# Altium schematic symbol library ebf_mp157 core board s1_20210223_原理图封装库_AD格式.SCHLIB: 35 symbols
Pins are listed as number, name and electrical type; pins without a type are passive.

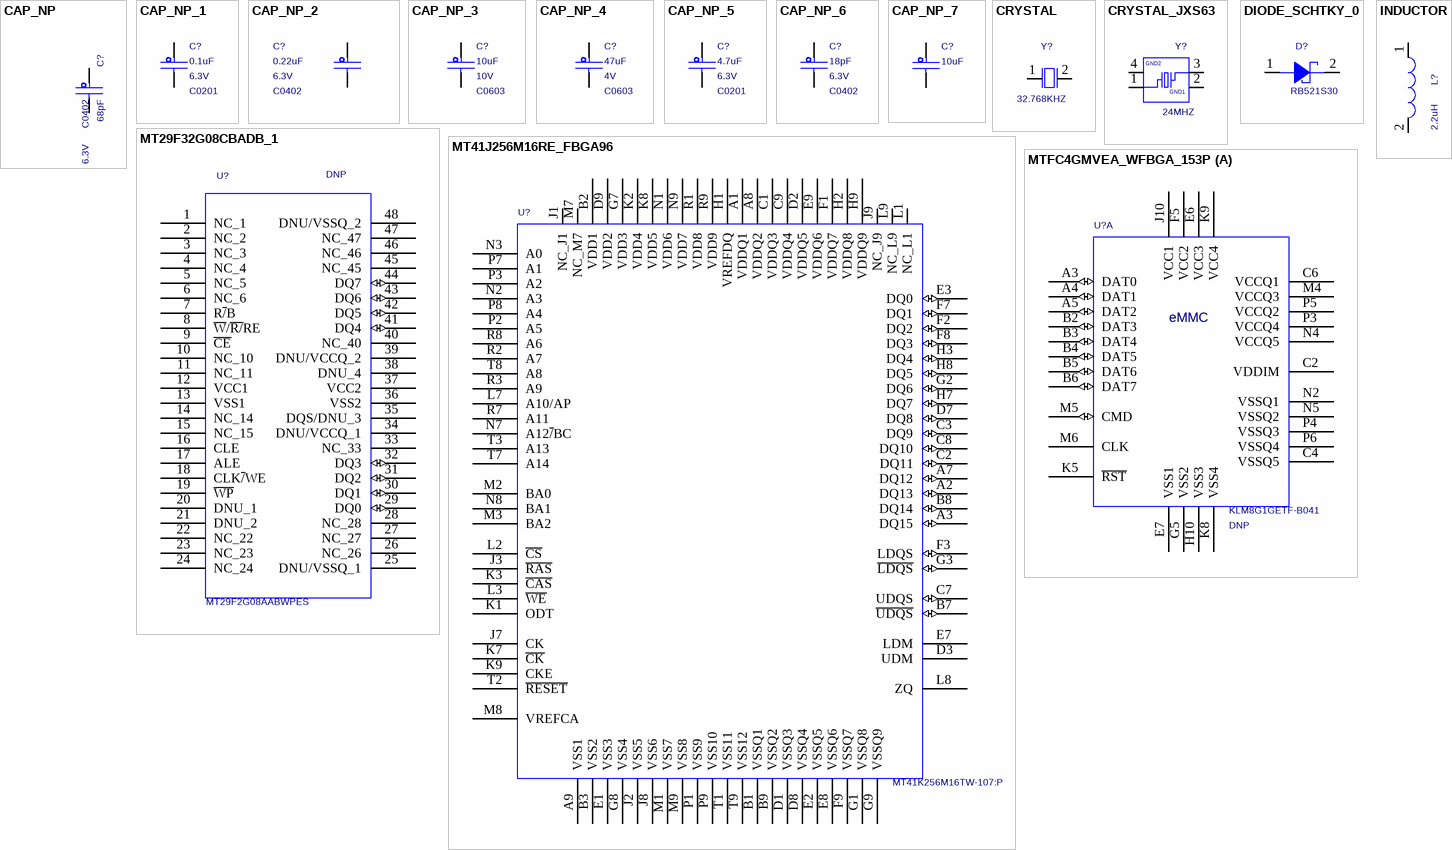
[diagram p0: symbols CAP_NP to MTFC4GMVEA_WFBGA_153P]

## CAP_NP
designator C?  value 68pF  VOLTAGE: 6.3V  PCB DECAL: C0402  (hidden comment: CAP_NP)
CAP CER 0.22UF 6.3V 20% X5R 0402; AGILE_PN: 150-76271; MFG_NAME01: KEMET; MFG_PN01: C0402C224M9PAC; CAD_APPROVED: Yes; FPLIST: CC0402_25,CC0402_HD,0402_CC; Source_Path: Q:\ORCADCIS\SYMBOLS\FCL_CAPACITOR.OLB; CLASS: DISCRETE; Tolerance: 20%; ROHS: Yes; HEIGHT: 0.55MM
footprint C0402
pins: 1, 2

## CAP_NP_1
designator C?, comment value 0.1uF  VOLTAGE: 6.3V  PCB DECAL: C0201  (hidden comment: CAP_NP)
CAP CER 0.22UF 6.3V 20% X5R 0402; FPLIST: CC0402_25,CC0402_HD,0402_CC; CAD_APPROVED: Yes; MFG_PN01: C0402C224M9PAC; MFG_NAME01: KEMET; AGILE_PN: 150-76271; Source_Path: Q:\ORCADCIS\SYMBOLS\FCL_CAPACITOR.OLB; CLASS: DISCRETE; HEIGHT: 0.55MM; ROHS: Yes; Tolerance: 20%
footprint C0201
pins: 1, 2

## CAP_NP_2
designator C?, comment value 0.22uF  VOLTAGE: 6.3V  PCB DECAL: C0402  (hidden comment: CAP_NP)
CAP CER 0.22UF 6.3V 20% X5R 0402; FPLIST: CC0402_25,CC0402_HD,0402_CC; CAD_APPROVED: Yes; MFG_PN01: C0402C224M9PAC; MFG_NAME01: KEMET; AGILE_PN: 150-76271; Source_Path: Q:\ORCADCIS\SYMBOLS\FCL_CAPACITOR.OLB; CLASS: DISCRETE; HEIGHT: 0.55MM; ROHS: Yes; Tolerance: 20%
footprint C0402
pins: 1, 2

## CAP_NP_3
designator C?, comment value 10uF  voltage_rating: 10V  PCB DECAL: C0603  (hidden comment: CAP_NP)
CAP CER 22UF 6.3V 20% X5R 0603; AGILE_PN: 150-78467; MFG_NAME01: Samsung; MFG_PN01: CL10A226MQ8NRNE; CAD_APPROVED: Yes; FPLIST: CC0603_OV,CC0603,0603_CC; Source_Path: Q:\ORCADCIS\SYMBOLS\FCL_CAPACITOR.OLB; CLASS: DISCRETE; Tolerance: 20%; ROHS: Yes; HEIGHT: 1MM; VOLTAGE: 6.3V
footprint C0603
pins: 1, 2

## CAP_NP_4
designator C?, comment value 47uF  voltage_rating: 4V  PCB DECAL: C0603  (hidden comment: CAP_NP)
CAP CER 22UF 6.3V 20% X5R 0603; AGILE_PN: 150-78467; MFG_NAME01: Samsung; MFG_PN01: CL10A226MQ8NRNE; CAD_APPROVED: Yes; FPLIST: CC0603_OV,CC0603,0603_CC; Source_Path: Q:\ORCADCIS\SYMBOLS\FCL_CAPACITOR.OLB; CLASS: DISCRETE; Tolerance: 20%; ROHS: Yes; HEIGHT: 1MM; VOLTAGE: 6.3V
footprint C0603
pins: 1, 2

## CAP_NP_5
designator C?, comment value 4.7uF  VOLTAGE: 6.3V  PCB DECAL: C0201  (hidden comment: CAP_NP)
CAP CER 0.22UF 6.3V 20% X5R 0402; AGILE_PN: 150-76271; MFG_NAME01: KEMET; MFG_PN01: C0402C224M9PAC; CAD_APPROVED: Yes; FPLIST: CC0402_25,CC0402_HD,0402_CC; Source_Path: Q:\ORCADCIS\SYMBOLS\FCL_CAPACITOR.OLB; CLASS: DISCRETE; Tolerance: 20%; ROHS: Yes; HEIGHT: 0.55MM
footprint C0201
pins: 1, 2

## CAP_NP_6
designator C?, comment value 18pF  VOLTAGE: 6.3V  PCB DECAL: C0402  (hidden comment: CAP_NP)
CAP CER 0.22UF 6.3V 20% X5R 0402; AGILE_PN: 150-76271; MFG_NAME01: KEMET; MFG_PN01: C0402C224M9PAC; CAD_APPROVED: Yes; FPLIST: CC0402_25,CC0402_HD,0402_CC; Source_Path: Q:\ORCADCIS\SYMBOLS\FCL_CAPACITOR.OLB; CLASS: DISCRETE; Tolerance: 20%; ROHS: Yes; HEIGHT: 0.55MM
footprint C0402
pins: 1, 2

## CAP_NP_7
designator C?, comment value 10uF  (hidden comment: CAP_NP)
CAP CER 0.22UF 6.3V 20% X5R 0402; FPLIST: CC0402_25,CC0402_HD,0402_CC; CAD_APPROVED: Yes; MFG_PN01: C0402C224M9PAC; MFG_NAME01: KEMET; AGILE_PN: 150-76271; PCB DECAL: C0603; Source_Path: Q:\ORCADCIS\SYMBOLS\FCL_CAPACITOR.OLB; CLASS: DISCRETE; VOLTAGE: 6.3V; HEIGHT: 0.55MM; ROHS: Yes; Tolerance: 20%
footprint C0603
pins: 1, 2

## CRYSTAL
designator Y?  value 32.768KHZ  (hidden comment: CRYSTAL)
XTAL 32.768KHZ 7PF 20PPM -- SMT; CAD_APPROVED: Yes; MFG_PN01: FC-135 32.7680KA-AG3; MFG_NAME01: EPSON ELECTRONICS; AGILE_PN: 230-78102; PCB DECAL: 3215; Source_Path: Q:\ORCADCIS\SYMBOLS\FCL_XTAL_OSC.OLB; CLASS: IC; HEIGHT: 0.9MM; ROHS: Yes
footprint 3215
pins: 1, 2

## CRYSTAL_JXS63
designator Y?  value 24MHZ  (hidden comment: CRYSTAL_JXS63)
XTAL 24MHZ -- 30PPM 3.2X2.5MM SMD; AGILE_PN: 230-77452; MFG_NAME01: TXC CORP; MFG_PN01: 7V24000002; CAD_APPROVED: Yes; PCB DECAL: 3225; Source_Path: Q:\ORCADCIS\SYMBOLS\FCL_XTAL_OSC.OLB; CLASS: IC; ROHS: Yes; HEIGHT: 0.9MM
footprint 3225
pins: 1, 2 GND1 (power), 3, 4 GND2 (power)

## DIODE_SCHTKY_0
designator D?  value RB521S30  (hidden comment: DIODE_SCHTKY_0)
DIODE SCH RECT 200MA 30V AEC-Q101 SOD-523; CAD_APPROVED: Yes; MFG_PN01: RB521S30,115; MFG_NAME01: NEXPERIA; AGILE_PN: 480-79672; PCB DECAL: SOD523; Source_Path: H:\NXP_RT1050\SCH\IMXRT1052_CORE\CORE\IMXRT1052_1207.DSN; CLASS: IC; HEIGHT: 0.65MM; ROHS: Yes
footprint SOD523
pins: 1, 2

## INDUCTOR
designator L?  value 2.2uH  (hidden comment: INDUCTOR)
IND WW PWR 1.5uH@1MHZ 2A 20% 2520; PART_TYPE: POWER; AGILE_PN: 180-78270; MFG_NAME01: Shenzhen Sunlord Electronics Co., Ltd; MFG_PN01: SPH252012H1R5MT; CAD_APPROVED: Yes; PCB DECAL: L2520; Source_Path: Q:\ORCADCIS\SYMBOLS\FCL_INDUCTOR.OLB; CLASS: DISCRETE; Tolerance: 20%; ROHS: Yes; HEIGHT: 1.2MM
footprint L2520
pins: 1, 2

## MT29F32G08CBADB_1
designator U?  value MT29F2G08AABWPES  ASSY_OPT: DNP  (hidden comment: MT29F32G08CBADB_1)
IC MEM NAND FLASH ASYNC 32GB 2.7-3.6V TSOP48; PCB DECAL: TSOP48-050-1220; CAD_APPROVED: Yes; MFG_PN01: MT29F32G08CBADBWP-12IT:D; MFG_NAME01: Micron; AGILE_PN: 334-77617; Source_Path: E:\Z\野火_MP157_核心板_底板_硬件资料\EBF157_B1_002\EBF157_B1_001.DSN; HEIGHT: 1.2 MM; ROHS: Yes; CLASS: IC
footprint TSOP48-050-1220
pins: 1 NC_1, 2 NC_2, 3 NC_3, 4 NC_4, 5 NC_5, 6 NC_6, 7 R~{/}B (oc), 8 ~{W}/~{R/}RE, 9 ~{CE}, 10 NC_10, 11 NC_11, 12 VCC1 (power), 13 VSS1 (power), 14 NC_14, 15 NC_15, 16 CLE, 17 ALE, 18 CLK~{/}WE, 19 ~{WP}, 20 DNU_1, 21 DNU_2, 22 NC_22, 23 NC_23, 24 NC_24, 25 DNU/VSSQ_1, 26 NC_26, 27 NC_27, 28 NC_28, 29 DQ0 (io), 30 DQ1 (io), 31 DQ2 (io), 32 DQ3 (io), 33 NC_33, 34 DNU/VCCQ_1, 35 DQS/DNU_3, 36 VSS2 (power), 37 VCC2 (power), 38 DNU_4, 39 DNU/VCCQ_2, 40 NC_40, 41 DQ4 (io), 42 DQ5 (io), 43 DQ6 (io), 44 DQ7 (io), 45 NC_45, 46 NC_46, 47 NC_47, 48 DNU/VSSQ_2

## MT41J256M16RE_FBGA96
designator U?  value MT41K256M16TW-107:P  (hidden comment: MT41J256M16RE_FBGA96)
IC MEM DDR3 SDRAM 256MX16 1.071NS 1.35V FBGA96; PCB DECAL: BGA96_0P8_8P15X14P15; AGILE_PN: 334-77510; MFG_NAME01: MICRON; CAD_APPROVED: Yes; Source_Path: Q:\ORCADCIS\SYMBOLS\FCL_IC5.OLB; MFG_PN01: MT41K256M16TW-107:P; ROHS: Yes; HEIGHT: 1.2 MM; CLASS: IC
footprint BGA96_0P8_8P15X14P15
pins: A1 VDDQ1 (power), A2 DQ13 (io), A3 DQ15 (io), A7 DQ12 (io), A8 VDDQ2 (power), A9 VSS1 (power), B1 VSSQ1 (power), B2 VDD1 (power), B3 VSS2 (power), B7 ~{UDQS} (io), B8 DQ14 (io), B9 VSSQ2 (power), C1 VDDQ3 (power), C2 DQ11 (io), C3 DQ9 (io), C7 UDQS (io), C8 DQ10 (io), C9 VDDQ4 (power), D1 VSSQ3 (power), D2 VDDQ5 (power), D3 UDM, D7 DQ8 (io), D8 VSSQ4 (power), D9 VDD2 (power), E1 VSS3 (power), E2 VSSQ5 (power), E3 DQ0 (io), E7 LDM, E8 VSSQ6 (power), E9 VDDQ6 (power), F1 VDDQ7 (power), F2 DQ2 (io), F3 LDQS (io), F7 DQ1 (io), F8 DQ3 (io), F9 VSSQ7 (power), G1 VSSQ8 (power), G2 DQ6 (io), G3 ~{LDQS} (io), G7 VDD3 (power), G8 VSS4 (power), G9 VSSQ9 (power), H1 VREFDQ, H2 VDDQ8 (power), H3 DQ4 (io), H7 DQ7 (io), H8 DQ5 (io), H9 VDDQ9 (power), J1 NC_J1, J2 VSS5 (power), J3 ~{RAS}, J7 CK, J8 VSS6 (power), J9 NC_J9, K1 ODT, K2 VDD4 (power), K3 ~{CAS}, K7 ~{CK}, K8 VDD5 (power), K9 CKE, L1 NC_L1, L2 ~{CS}, L3 ~{WE}, L7 A10/AP, L8 ZQ, L9 NC_L9, M1 VSS7 (power), M2 BA0, M3 BA2, M7 NC_M7, M8 VREFCA, M9 VSS8 (power), N1 VDD6 (power), N2 A3, N3 A0, N7 A12~{/}BC, N8 BA1, N9 VDD7 (power), P1 VSS9 (power), P2 A5, P3 A2, P7 A1, P8 A4, P9 VSS10 (power), R1 VDD8 (power), R2 A7, R3 A9, R7 A11, R8 A6, R9 VDD9 (power), T1 VSS11 (power), T2 ~{RESET}, T3 A13, T7 A14, T8 A8, T9 VSS12 (power)

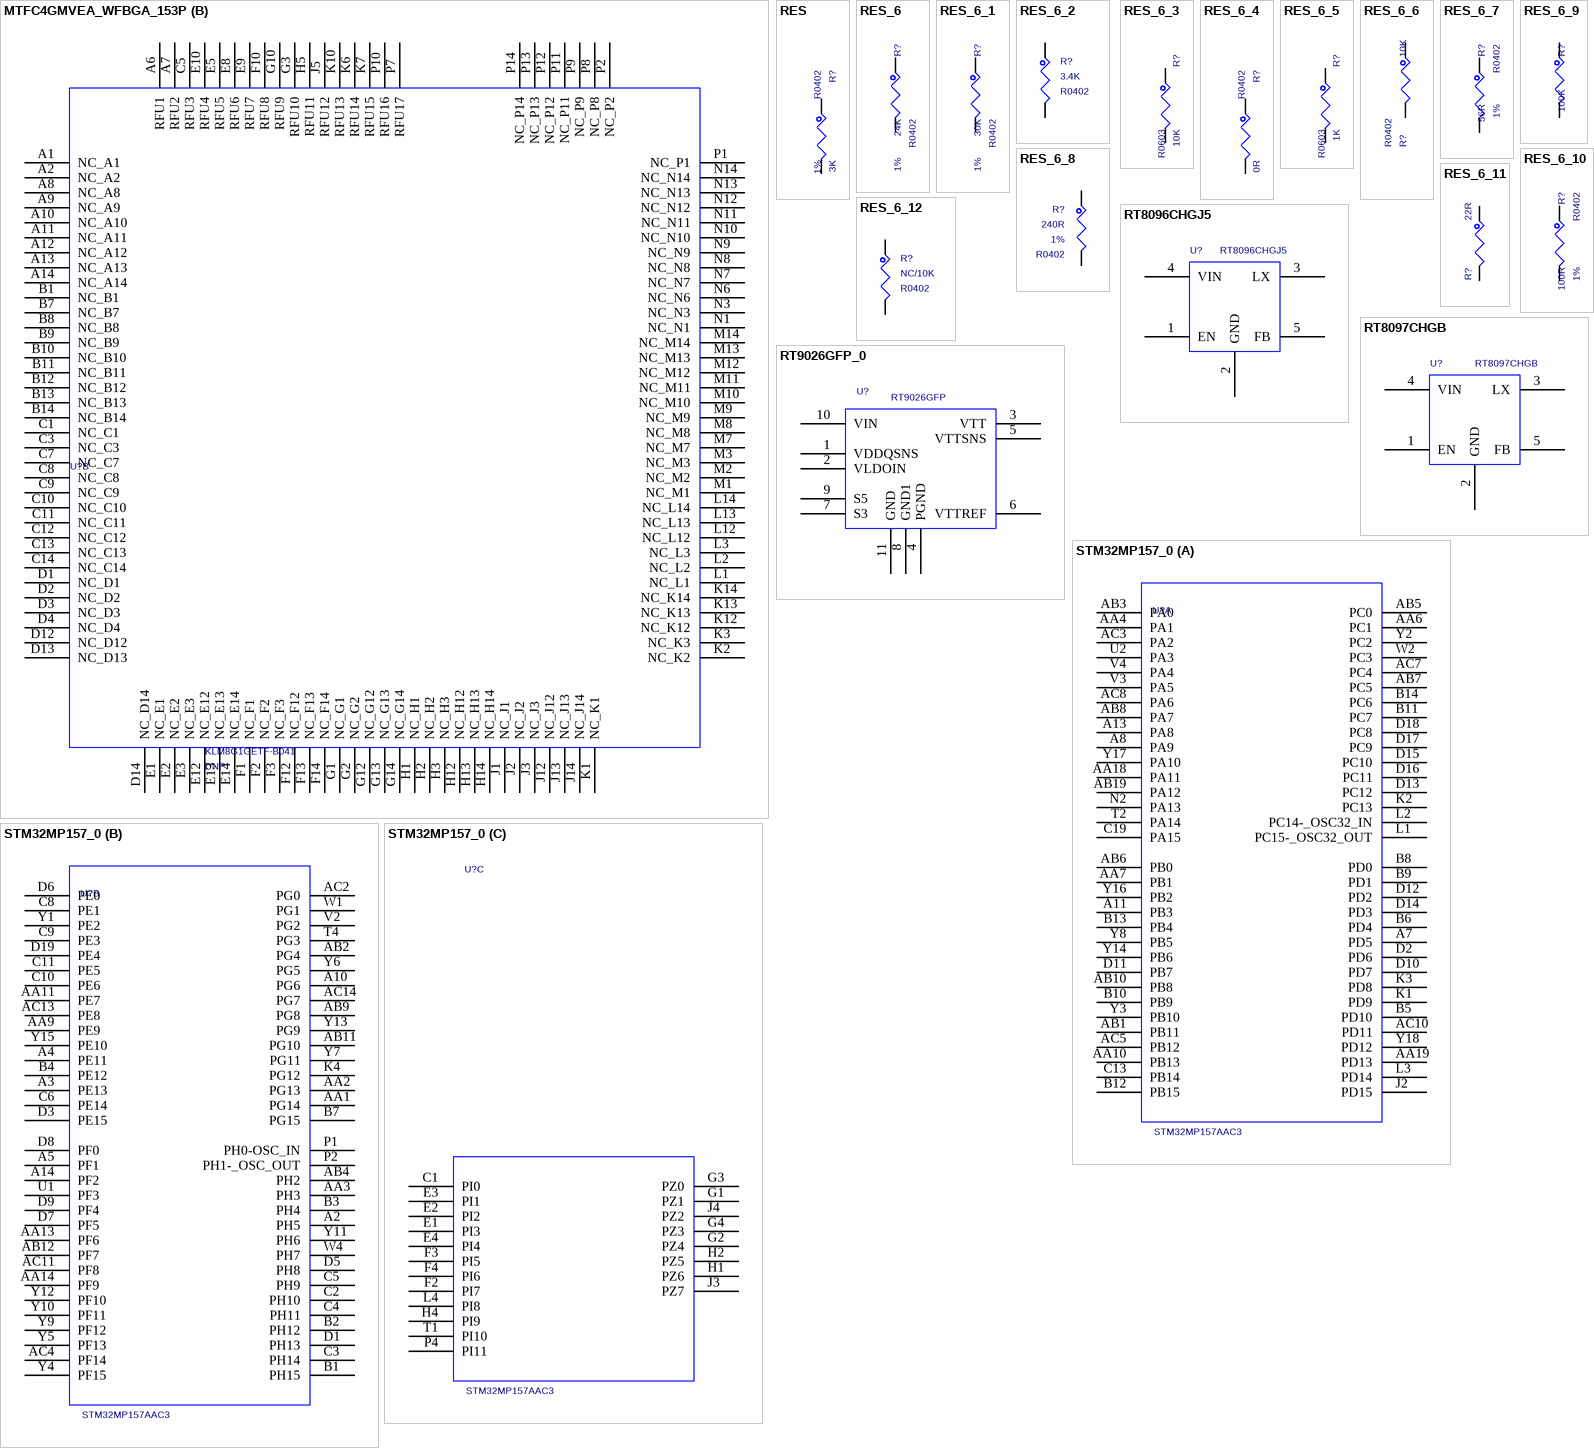
[diagram p1: symbols MTFC4GMVEA_WFBGA_153P to STM32MP157_0]

## MTFC4GMVEA_WFBGA_153P
designator U?  value KLM8G1GETF-B041  ASSY_OPT: DNP  (hidden comment: MTFC4GMVEA_WFBGA_153P)
IC MEM NAND FLASH 8GB MMC 4.51 CTLR 2.7-3.6V FBGA153; CAD_APPROVED: Yes; MFG_PN01: MTFC8GACAAAM-1M WT; MFG_NAME01: MICRON; AGILE_PN: 342-00603; PCB DECAL: FBGA153_0P5_11P5X13; Source_Path: Q:\ORCADCIS\SYMBOLS\FCL_IC5.OLB; HEIGHT: 1.165 MM; ROHS: Yes; CLASS: IC
footprint FBGA153_0P5_11P5X13
part A pins: A3 DAT0 (io), A4 DAT1 (io), A5 DAT2 (io), B2 DAT3 (io), B3 DAT4 (io), B4 DAT5 (io), B5 DAT6 (io), B6 DAT7 (io), C2 VDDIM (power), C4 VSSQ5 (power), C6 VCCQ1 (power), E6 VCC3 (power), E7 VSS1 (power), F5 VCC2 (power), G5 VSS2 (power), H10 VSS3 (power), J10 VCC1 (power), K5 ~{RST}, K8 VSS4 (power), K9 VCC4 (power), M4 VCCQ3 (power), M5 CMD (io), M6 CLK, N2 VSSQ1 (power), N4 VCCQ5 (power), N5 VSSQ2 (power), P3 VCCQ4 (power), P4 VSSQ3 (power), P5 VCCQ2 (power), P6 VSSQ4 (power)
part B pins: A1 NC_A1, A2 NC_A2, A6 RFU1, A7 RFU2, A8 NC_A8, A9 NC_A9, A10 NC_A10, A11 NC_A11, A12 NC_A12, A13 NC_A13, A14 NC_A14, B1 NC_B1, B7 NC_B7, B8 NC_B8, B9 NC_B9, B10 NC_B10, B11 NC_B11, B12 NC_B12, B13 NC_B13, B14 NC_B14, C1 NC_C1, C3 NC_C3, C5 RFU3, C7 NC_C7, C8 NC_C8, C9 NC_C9, C10 NC_C10, C11 NC_C11, C12 NC_C12, C13 NC_C13, C14 NC_C14, D1 NC_D1, D2 NC_D2, D3 NC_D3, D4 NC_D4, D12 NC_D12, D13 NC_D13, D14 NC_D14, E1 NC_E1, E2 NC_E2, E3 NC_E3, E5 RFU5, E8 RFU6, E9 RFU7, E10 RFU4, E12 NC_E12, E13 NC_E13, E14 NC_E14, F1 NC_F1, F2 NC_F2, F3 NC_F3, F10 RFU8, F12 NC_F12, F13 NC_F13, F14 NC_F14, G1 NC_G1, G2 NC_G2, G3 RFU10, G10 RFU9, G12 NC_G12, G13 NC_G13, G14 NC_G14, H1 NC_H1, H2 NC_H2, H3 NC_H3, H5 RFU11, H12 NC_H12, H13 NC_H13, H14 NC_H14, J1 NC_J1, J2 NC_J2, J3 NC_J3, J5 RFU12, J12 NC_J12, J13 NC_J13, J14 NC_J14, K1 NC_K1, K2 NC_K2, K3 NC_K3, K6 RFU14, K7 RFU15, K10 RFU13, K12 NC_K12, K13 NC_K13, K14 NC_K14, L1 NC_L1, L2 NC_L2, L3 NC_L3, L12 NC_L12, L13 NC_L13, L14 NC_L14, M1 NC_M1, M2 NC_M2, M3 NC_M3, M7 NC_M7, M8 NC_M8, M9 NC_M9, M10 NC_M10, M11 NC_M11, M12 NC_M12, M13 NC_M13, M14 NC_M14, N1 NC_N1, N3 NC_N3, N6 NC_N6, N7 NC_N7, N8 NC_N8, N9 NC_N9, N10 NC_N10, N11 NC_N11, N12 NC_N12, N13 NC_N13, N14 NC_N14, P1 NC_P1, P2 NC_P2, P7 RFU17, P8 NC_P8, P9 NC_P9, P10 RFU16, P11 NC_P11, P12 NC_P12, P13 NC_P13, P14 NC_P14
part A text: eMMC

## RES
designator R?  value 3K  PCB DECAL: R0402  Tolerance: 1%  (hidden comment: RES)
RES MF 2.2M  1/16W 1% 0402; FPLIST: RC0402_25,RC0402_HD,0402_CC; CAD_APPROVED: Yes; MFG_PN01: RK73H1ETTP2204F; MFG_NAME01: KOA SPEER; AGILE_PN: 470-31210; Source_Path: Q:\ORCADCIS\SYMBOLS\FCL_RESISTOR.OLB; CLASS: DISCRETE; HEIGHT: 0.40 MM; ROHS: Yes
footprint R0402
pins: 1, 2

## RES_6
designator R?  value 24K  Tolerance: 1%  PCB DECAL: R0402  (hidden comment: RES_6)
RES MF 180K 1/10W 1% AEC-Q200 0402; Temp_Range: -55C to +155C; FPLIST: RC0402_25,RC0402_HD,0402_CC; CAD_APPROVED: Yes; MFG_PN01: RK73H1ETTP1803F; MFG_NAME01: KOA SPEER; AGILE_PN: 470-31088; Source_Path: E:\Z\20200407_MP157\核心板\SCH\EBF_MP157 CORE BOARD_20200407.DSN; CLASS: DISCRETE; HEIGHT: 0.40 MM; ROHS: Yes
footprint R0402
pins: 1, 2

## RES_6_1
designator R?, comment value 30K  Tolerance: 1%  PCB DECAL: R0402  (hidden comment: RES_6)
RES MF 180K 1/10W 1% AEC-Q200 0402; AGILE_PN: 470-31088; MFG_NAME01: KOA SPEER; MFG_PN01: RK73H1ETTP1803F; CAD_APPROVED: Yes; FPLIST: RC0402_25,RC0402_HD,0402_CC; Temp_Range: -55C to +155C; Source_Path: E:\Z\20200407_MP157\核心板\SCH\EBF_MP157 CORE BOARD_20200407.DSN; CLASS: DISCRETE; ROHS: Yes; HEIGHT: 0.40 MM
footprint R0402
pins: 1, 2

## RES_6_2
designator R?, comment value 3.4K  PCB DECAL: R0402  (hidden comment: RES_6)
RES MF 4.7K 1/16W 5% 0402; FPLIST: RC0402_25,RC0402_HD,0402_CC; CAD_APPROVED: Yes; MFG_PN01: RK73B1ETTP472J; MFG_NAME01: KOA SPEER; AGILE_PN: 470-75626; Source_Path: E:\Z\20200407_MP157\核心板\SCH\EBF_MP157 CORE BOARD_20200407.DSN; CLASS: DISCRETE; HEIGHT: 0.41mm; ROHS: Yes; Tolerance: 5%
footprint R0402
pins: 1, 2

## RES_6_3
designator R?, comment value 10K  PCB DECAL: R0603  (hidden comment: RES_6)
RES MF ZERO OHM 1/16W 5% 0402; AGILE_PN: 470-75394; MFG_NAME01: ROHM; MFG_PN01: MCR01MZPJ000; CAD_APPROVED: Yes; FPLIST: RC0402_25,RC0402_HD,RC0402_X2,0402_CC; Source_Path: E:\Z\20200407_MP157\核心板\SCH\EBF_MP157 CORE BOARD_20200407.DSN; CLASS: DISCRETE; HEIGHT: 0.45 MM; Tolerance: 5%; ROHS: Yes
footprint R0603
pins: 1, 2

## RES_6_4
designator R?, comment value 0R  PCB DECAL: R0402  (hidden comment: RES_6)
RES MF ZERO OHM 1/16W 5% 0402; AGILE_PN: 470-75394; MFG_NAME01: ROHM; MFG_PN01: MCR01MZPJ000; CAD_APPROVED: Yes; FPLIST: RC0402_25,RC0402_HD,RC0402_X2,0402_CC; Source_Path: E:\Z\20200407_MP157\核心板\SCH\EBF_MP157 CORE BOARD_20200407.DSN; CLASS: DISCRETE; HEIGHT: 0.45 MM; Tolerance: 5%; ROHS: Yes
footprint R0402
pins: 1, 2

## RES_6_5
designator R?, comment value 1K  PCB DECAL: R0603  (hidden comment: RES_6)
RES MF ZERO OHM 1/16W 5% 0402; FPLIST: RC0402_25,RC0402_HD,RC0402_X2,0402_CC; CAD_APPROVED: Yes; MFG_PN01: MCR01MZPJ000; MFG_NAME01: ROHM; AGILE_PN: 470-75394; Source_Path: E:\Z\20200407_MP157\核心板\SCH\EBF_MP157 CORE BOARD_20200407.DSN; CLASS: DISCRETE; ROHS: Yes; Tolerance: 5%; HEIGHT: 0.45 MM
footprint R0603
pins: 1, 2

## RES_6_6
designator R?, comment value 10K  PCB DECAL: R0402  (hidden comment: RES_6)
RES MF 10K 1/16W 5% 0402; FPLIST: RC0402_25,RC0402_HD,0402_CC; CAD_APPROVED: Yes; MFG_PN01: CRCW040210K0JNED; MFG_NAME01: VISHAY INTERTECHNOLOGY; AGILE_PN: 470-75557; Source_Path: E:\Z\20200407_MP157\核心板\SCH\EBF_MP157 CORE BOARD_20200407.DSN; CLASS: DISCRETE; HEIGHT: 0.4 MM; ROHS: Yes; Tolerance: 5%
footprint R0402
pins: 1, 2

## RES_6_7
designator R?, comment value 56R  PCB DECAL: R0402  Tolerance: 1%  (hidden comment: RES_6)
RES MF 180K 1/10W 1% AEC-Q200 0402; Temp_Range: -55C to +155C; FPLIST: RC0402_25,RC0402_HD,0402_CC; CAD_APPROVED: Yes; MFG_PN01: RK73H1ETTP1803F; MFG_NAME01: KOA SPEER; AGILE_PN: 470-31088; Source_Path: E:\Z\20200407_MP157\核心板\SCH\EBF_MP157 CORE BOARD_20200407.DSN; CLASS: DISCRETE; HEIGHT: 0.40 MM; ROHS: Yes
footprint R0402
pins: 1, 2

## RES_6_8
designator R?, comment value 240R  PCB DECAL: R0402  Tolerance: 1%  (hidden comment: RES_6)
RES MF 180K 1/10W 1% AEC-Q200 0402; AGILE_PN: 470-31088; MFG_NAME01: KOA SPEER; MFG_PN01: RK73H1ETTP1803F; CAD_APPROVED: Yes; FPLIST: RC0402_25,RC0402_HD,0402_CC; Temp_Range: -55C to +155C; Source_Path: E:\Z\20200407_MP157\核心板\SCH\EBF_MP157 CORE BOARD_20200407.DSN; CLASS: DISCRETE; ROHS: Yes; HEIGHT: 0.40 MM
footprint R0402
pins: 1, 2

## RES_6_9
designator R?, comment value 100K  (hidden comment: RES_6)
RES MF 180K 1/10W 1% AEC-Q200 0402; AGILE_PN: 470-31088; MFG_NAME01: KOA SPEER; MFG_PN01: RK73H1ETTP1803F; CAD_APPROVED: Yes; FPLIST: RC0402_25,RC0402_HD,0402_CC; Temp_Range: -55C to +155C; PCB DECAL: R0402; Source_Path: E:\Z\20200407_MP157\核心板\SCH\EBF_MP157 CORE BOARD_20200407.DSN; CLASS: DISCRETE; Tolerance: 1%; ROHS: Yes; HEIGHT: 0.40 MM
footprint R0402
pins: 1, 2

## RES_6_10
designator R?, comment value 100R  Tolerance: 1%  PCB DECAL: R0402  (hidden comment: RES_6)
RES MF 180K 1/10W 1% AEC-Q200 0402; AGILE_PN: 470-31088; MFG_NAME01: KOA SPEER; MFG_PN01: RK73H1ETTP1803F; CAD_APPROVED: Yes; FPLIST: RC0402_25,RC0402_HD,0402_CC; Temp_Range: -55C to +155C; Source_Path: E:\Z\20200407_MP157\核心板\SCH\EBF_MP157 CORE BOARD_20200407.DSN; CLASS: DISCRETE; ROHS: Yes; HEIGHT: 0.40 MM
footprint R0402
pins: 1, 2

## RES_6_11
designator R?, comment value 22R  (hidden comment: RES_6)
RES MF ZERO OHM 1/16W 5% 0402; AGILE_PN: 470-75394; MFG_NAME01: ROHM; MFG_PN01: MCR01MZPJ000; CAD_APPROVED: Yes; FPLIST: RC0402_25,RC0402_HD,RC0402_X2,0402_CC; PCB DECAL: R0402; Source_Path: E:\Z\20200407_MP157\核心板\SCH\EBF_MP157 CORE BOARD_20200407.DSN; CLASS: DISCRETE; HEIGHT: 0.45 MM; Tolerance: 5%; ROHS: Yes
footprint R0402
pins: 1, 2

## RES_6_12
designator R?, comment value NC/10K  PCB DECAL: R0402  (hidden comment: RES_6)
RES MF 10K 1/16W 5% 0402; AGILE_PN: 470-75557; MFG_NAME01: VISHAY INTERTECHNOLOGY; MFG_PN01: CRCW040210K0JNED; CAD_APPROVED: Yes; FPLIST: RC0402_25,RC0402_HD,0402_CC; Source_Path: E:\Z\20200407_MP157\核心板\SCH\EBF_MP157 CORE BOARD_20200407.DSN; CLASS: DISCRETE; HEIGHT: 0.4 MM; TOL: 5%; Tolerance: 5%; ROHS: Yes
footprint R0402
pins: 1, 2

## RT8096CHGJ5
designator U?
PCB DECAL: TSOT-23-5; Source_Path: F:\SCH-PCB\EBF_L001\SCH\LIBRARY1.OLB; Value: RT8096CHGJ5
footprint TSOT-23-5
pins: 1 EN, 2 GND, 3 LX, 4 VIN, 5 FB

## RT8097CHGB
designator U?
PCB DECAL: TSOT-23-5; Source_Path: E:\Z\野火_MP157_核心板_底板_硬件资料\EBF157_B1_002\MYLIB\MYLIBRARY.OLB; Value: RT8097CHGB
footprint TSOT-23-5
pins: 1 EN, 2 GND (power), 3 LX (power), 4 VIN (power), 5 FB

## RT9026GFP_0
designator U?  value RT9026GFP  (hidden comment: RT9026GFP_0)
PCB DECAL: MSOP10; Source_Path: E:\Z\野火_MP157_核心板_底板_硬件资料\EBF157_B1_002\EBF157_B1_001.DSN
footprint MSOP10
pins: 1 VDDQSNS, 2 VLDOIN, 3 VTT, 4 PGND, 5 VTTSNS, 6 VTTREF, 7 S3, 8 GND1, 9 S5, 10 VIN, 11 GND

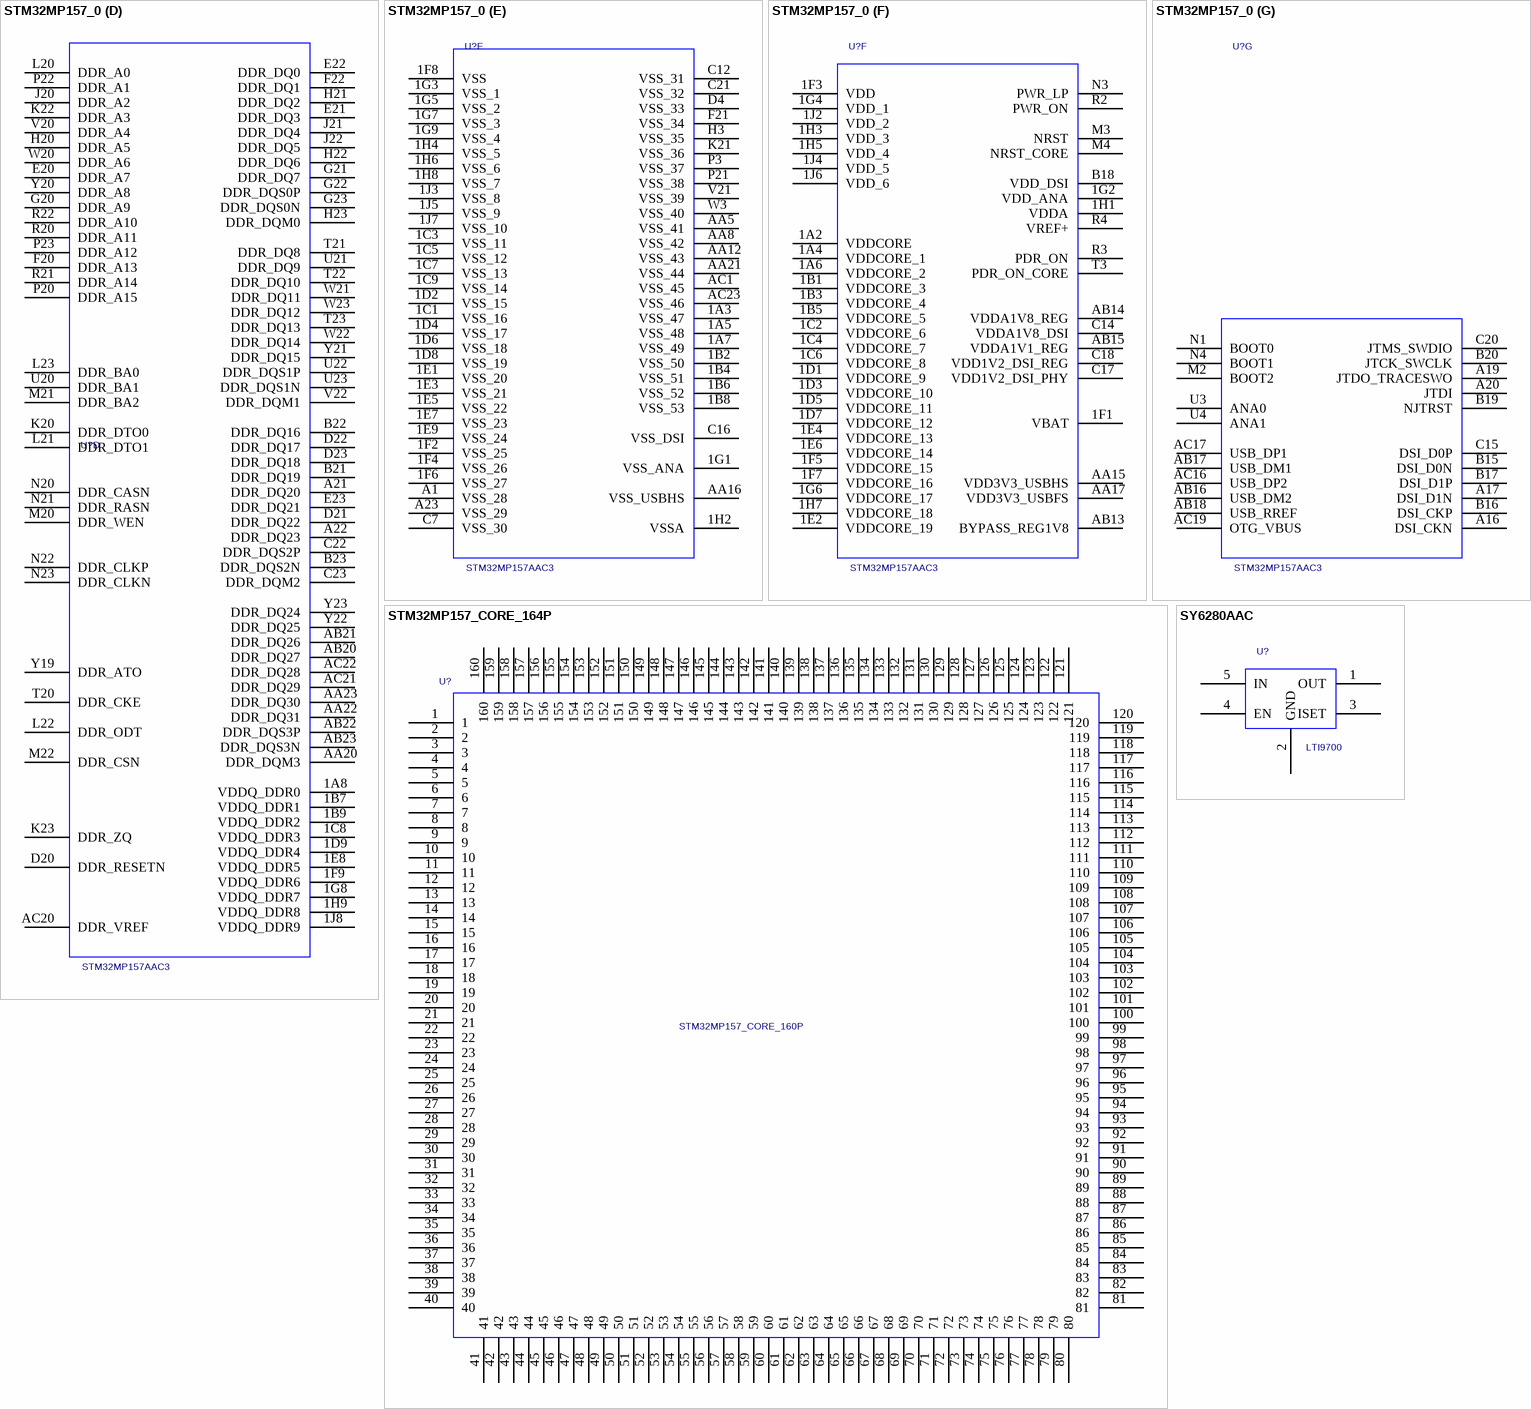
[diagram p2: symbols STM32MP157_0 to SY6280AAC]

## STM32MP157_0
designator U?  value STM32MP157AAC3  (hidden comment: STM32MP157_0)
PCB DECAL: TFBGA361_12X12; Source_Path: E:\Z\野火_MP157_核心板_底板_硬件资料\EBF157_B1_002\EBF157_B1_001.DSN
footprint TFBGA361_12X12
part A pins: A7 PD5, A8 PA9, A11 PB3, A13 PA8, AA4 PA1, AA6 PC1, AA7 PB1, AA10 PB13, AA18 PA11, AA19 PD13, AB1 PB11, AB3 PA0, AB5 PC0, AB6 PB0, AB7 PC5, AB8 PA7, AB10 PB8, AB19 PA12, AC3 PA2, AC5 PB12, AC7 PC4, AC8 PA6, AC10 PD11, B5 PD10, B6 PD4, B8 PD0, B9 PD1, B10 PB9, B11 PC7, B12 PB15, B13 PB4, B14 PC6, C13 PB14, C19 PA15, D2 PD6, D10 PD7, D11 PB7, D12 PD2, D13 PC12, D14 PD3, D15 PC10, D16 PC11, D17 PC9, D18 PC8, J2 PD15, K1 PD9, K2 PC13, K3 PD8, L1 PC15-_OSC32_OUT, L2 PC14-_OSC32_IN, L3 PD14, N2 PA13, T2 PA14, U2 PA3, V3 PA5, V4 PA4, W2 PC3, Y2 PC2, Y3 PB10, Y8 PB5, Y14 PB6, Y16 PB2, Y17 PA10, Y18 PD12
part B pins: A2 PH5, A3 PE13, A4 PE11, A5 PF1, A10 PG6, A14 PF2, AA1 PG14, AA2 PG13, AA3 PH3, AA9 PE9, AA11 PE7, AA13 PF6, AA14 PF9, AB2 PG4, AB4 PH2, AB9 PG8, AB11 PG10, AB12 PF7, AC2 PG0, AC4 PF14, AC11 PF8, AC13 PE8, AC14 PG7, B1 PH15, B2 PH12, B3 PH4, B4 PE12, B7 PG15, C2 PH10, C3 PH14, C4 PH11, C5 PH9, C6 PE14, C8 PE1, C9 PE3, C10 PE6, C11 PE5, D1 PH13, D3 PE15, D5 PH8, D6 PE0, D7 PF5, D8 PF0, D9 PF4, D19 PE4, K4 PG12, P1 PH0-OSC_IN, P2 PH1-_OSC_OUT, T4 PG3, U1 PF3, V2 PG2, W1 PG1, W4 PH7, Y1 PE2, Y4 PF15, Y5 PF13, Y6 PG5, Y7 PG11, Y9 PF12, Y10 PF11, Y11 PH6, Y12 PF10, Y13 PG9, Y15 PE10
part C pins: C1 PI0, E1 PI3, E2 PI2, E3 PI1, E4 PI4, F2 PI7, F3 PI5, F4 PI6, G1 PZ1, G2 PZ4, G3 PZ0, G4 PZ3, H1 PZ6, H2 PZ5, H4 PI9, J3 PZ7, J4 PZ2, L4 PI8, P4 PI11, T1 PI10
part D pins: 1A8 VDDQ_DDR0 (power), 1B7 VDDQ_DDR1 (power), 1B9 VDDQ_DDR2 (power), 1C8 VDDQ_DDR3 (power), 1D9 VDDQ_DDR4 (power), 1E8 VDDQ_DDR5 (power), 1F9 VDDQ_DDR6 (power), 1G8 VDDQ_DDR7 (power), 1H9 VDDQ_DDR8 (power), 1J8 VDDQ_DDR9 (power), A21 DDR_DQ20, A22 DDR_DQ23, AA20 DDR_DQM3, AA22 DDR_DQ31, AA23 DDR_DQ30, AB20 DDR_DQ27, AB21 DDR_DQ26, AB22 DDR_DQS3P, AB23 DDR_DQS3N, AC20 DDR_VREF, AC21 DDR_DQ29, AC22 DDR_DQ28, B21 DDR_DQ19, B22 DDR_DQ16, B23 DDR_DQS2N, C22 DDR_DQS2P, C23 DDR_DQM2, D20 DDR_RESETN, D21 DDR_DQ22, D22 DDR_DQ17, D23 DDR_DQ18, E20 DDR_A7, E21 DDR_DQ3, E22 DDR_DQ0, E23 DDR_DQ21, F20 DDR_A13, F22 DDR_DQ1, G20 DDR_A9, G21 DDR_DQ7, G22 DDR_DQS0P, G23 DDR_DQS0N, H20 DDR_A5, H21 DDR_DQ2, H22 DDR_DQ6, H23 DDR_DQM0, J20 DDR_A2, J21 DDR_DQ4, J22 DDR_DQ5, K20 DDR_DTO0, K22 DDR_A3, K23 DDR_ZQ, L20 DDR_A0, L21 DDR_DTO1, L22 DDR_ODT, L23 DDR_BA0, M20 DDR_WEN, M21 DDR_BA2, M22 DDR_CSN, N20 DDR_CASN, N21 DDR_RASN, N22 DDR_CLKP, N23 DDR_CLKN, P20 DDR_A15, P22 DDR_A1, P23 DDR_A12, R20 DDR_A11, R21 DDR_A14, R22 DDR_A10, T20 DDR_CKE, T21 DDR_DQ8, T22 DDR_DQ10, T23 DDR_DQ13, U20 DDR_BA1, U21 DDR_DQ9, U22 DDR_DQS1P, U23 DDR_DQS1N, V20 DDR_A4, V22 DDR_DQM1, W20 DDR_A6, W21 DDR_DQ11, W22 DDR_DQ14, W23 DDR_DQ12, Y19 DDR_ATO, Y20 DDR_A8, Y21 DDR_DQ15, Y22 DDR_DQ25, Y23 DDR_DQ24
part E pins: 1A3 VSS_47, 1A5 VSS_48, 1A7 VSS_49, 1B2 VSS_50, 1B4 VSS_51, 1B6 VSS_52, 1B8 VSS_53, 1C1 VSS_16 (power), 1C3 VSS_11 (power), 1C5 VSS_12 (power), 1C7 VSS_13 (power), 1C9 VSS_14 (power), 1D2 VSS_15 (power), 1D4 VSS_17 (power), 1D6 VSS_18 (power), 1D8 VSS_19 (power), 1E1 VSS_20 (power), 1E3 VSS_21 (power), 1E5 VSS_22 (power), 1E7 VSS_23 (power), 1E9 VSS_24 (power), 1F2 VSS_25 (power), 1F4 VSS_26 (power), 1F6 VSS_27 (power), 1F8 VSS (power), 1G1 VSS_ANA, 1G3 VSS_1 (power), 1G5 VSS_2 (power), 1G7 VSS_3 (power), 1G9 VSS_4 (power), 1H2 VSSA, 1H4 VSS_5 (power), 1H6 VSS_6 (power), 1H8 VSS_7 (power), 1J3 VSS_8 (power), 1J5 VSS_9 (power), 1J7 VSS_10 (power), A1 VSS_28 (power), A23 VSS_29 (power), AA5 VSS_41, AA8 VSS_42, AA12 VSS_43, AA16 VSS_USBHS, AA21 VSS_44, AC1 VSS_45, AC23 VSS_46, C7 VSS_30 (power), C12 VSS_31, C16 VSS_DSI, C21 VSS_32, D4 VSS_33, F21 VSS_34, H3 VSS_35, K21 VSS_36, P3 VSS_37, P21 VSS_38, V21 VSS_39, W3 VSS_40
part F pins: 1A2 VDDCORE (power), 1A4 VDDCORE_1 (power), 1A6 VDDCORE_2 (power), 1B1 VDDCORE_3 (power), 1B3 VDDCORE_4 (power), 1B5 VDDCORE_5 (power), 1C2 VDDCORE_6 (power), 1C4 VDDCORE_7 (power), 1C6 VDDCORE_8 (power), 1D1 VDDCORE_9 (power), 1D3 VDDCORE_10 (power), 1D5 VDDCORE_11 (power), 1D7 VDDCORE_12 (power), 1E2 VDDCORE_19 (power), 1E4 VDDCORE_13 (power), 1E6 VDDCORE_14 (power), 1F1 VBAT (power), 1F3 VDD (power), 1F5 VDDCORE_15 (power), 1F7 VDDCORE_16 (power), 1G2 VDD_ANA (power), 1G4 VDD_1 (power), 1G6 VDDCORE_17 (power), 1H1 VDDA (power), 1H3 VDD_3 (power), 1H5 VDD_4 (power), 1H7 VDDCORE_18 (power), 1J2 VDD_2 (power), 1J4 VDD_5 (power), 1J6 VDD_6 (power), AA15 VDD3V3_USBHS (power), AA17 VDD3V3_USBFS (power), AB13 BYPASS_REG1V8, AB14 VDDA1V8_REG (power), AB15 VDDA1V1_REG (power), B18 VDD_DSI (power), C14 VDDA1V8_DSI (power), C17 VDD1V2_DSI_PHY (power), C18 VDD1V2_DSI_REG (power), M3 NRST, M4 NRST_CORE, N3 PWR_LP, R2 PWR_ON, R3 PDR_ON, R4 VREF+ (power), T3 PDR_ON_CORE
part G pins: A16 DSI_CKN, A17 DSI_D1N, A19 JTDO_TRACESWO, A20 JTDI, AB16 USB_DM2, AB17 USB_DM1, AB18 USB_RREF, AC16 USB_DP2, AC17 USB_DP1, AC19 OTG_VBUS, B15 DSI_D0N, B16 DSI_CKP, B17 DSI_D1P, B19 NJTRST, B20 JTCK_SWCLK, C15 DSI_D0P, C20 JTMS_SWDIO, M2 BOOT2, N1 BOOT0, N4 BOOT1, U3 ANA0, U4 ANA1

## STM32MP157_CORE_164P
designator U?  value STM32MP157_CORE_160P  (hidden comment: STM32MP157_CORE_164P)
PCB DECAL: MP157_CORE_160P_45X45; Source_Path: E:\20200723_MP157_S\CORE\LIBRARY1.OLB
footprint MP157_CORE_160P_45X45
pins: 1, 2, 3, 4, 5, 6, 7, 8, 9, 10, 11, 12, 13, 14, 15, 16, 17, 18, 19, 20, 21, 22, 23, 24, 25, 26, 27, 28, 29, 30, 31, 32, 33, 34, 35, 36, 37, 38, 39, 40, 41, 42, 43, 44, 45, 46, 47, 48, 49, 50, 51, 52, 53, 54, 55, 56, 57, 58, 59, 60, 61, 62, 63, 64, 65, 66, 67, 68, 69, 70, 71, 72, 73, 74, 75, 76, 77, 78, 79, 80, 81, 82, 83, 84, 85, 86, 87, 88, 89, 90, 91, 92, 93, 94, 95, 96, 97, 98, 99, 100, 101, 102, 103, 104, 105, 106, 107, 108, 109, 110, 111, 112, 113, 114, 115, 116, 117, 118, 119, 120, 121, 122, 123, 124, 125, 126, 127, 128, 129, 130, 131, 132, 133, 134, 135, 136, 137, 138, 139, 140, 141, 142, 143, 144, 145, 146, 147, 148, 149, 150, 151, 152, 153, 154, 155, 156, 157, 158, 159, 160

## SY6280AAC
designator U?  value LTI9700  (hidden comment: SY6280AAC)
PCB DECAL: SOT23-5; Source_Path: G:\开发板代码\郭老师资料\IMX6资料\原理图\SABRESDB_DESIGNFILES\DEVELOP\LIBRARY1.OLB
footprint SOT23-5
pins: 1 OUT, 2 GND, 3 ISET, 4 EN, 5 IN